# EAGLE library part ADN8810 (library analog-devices_III)
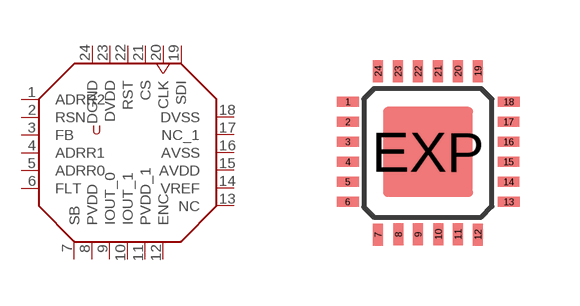
[diagram p29: symbol with the pads of LFCSP24; footprint LFCSP24]

Designator prefix -

## ADN8810  [LFCSP24]
1  ADRR2  in
2  RSN  in
3  FB  in
4  ADRR1  in
5  ADRR0  in
6  FLT  in
7  SB  in
8  PVDD  pwr
9  IOUT_0  out
10  IOUT_1  out
11  PVDD_1  pwr
12  ENC  in
13  NC  nc
14  VREF  in
15  AVDD  pwr
16  AVSS  sup
17  NC_1  nc
18  DVSS  sup
19  SDI  in
20  CLK  in
21  CS  in
22  RST  in
23  DVDD  pwr
24  DGND  sup

## Footprint LFCSP24 (pad centres in mm)
24-Lead Lead Frame Chip Scale Package 4 mm × 4 mm (CP-24) Source: www.analog.com .. 3832984220209AD8133_0.pdf
smd 0.55 x 0.25: 1 -2.01,1.25; 2 -2.005,0.75; 3 -2.005,0.25; 4 -2.005,-0.25; 5 -2.005,-0.75; 6 -2.01,-1.25; 13 2.02,-1.25; 14 2.015,-0.75; 15 2.015,-0.25; 16 2.015,0.25; 17 2.015,0.75; 18 2.02,1.25
smd 0.25 x 0.55: 7 -1.25,-2.07; 8 -0.74,-2.065; 9 -0.25,-2.065; 10 0.26,-2.065; 11 0.75,-2.065; 12 1.25,-2.07; 19 1.25,2.02; 20 0.75,2.015; 21 0.25,2.015; 22 -0.25,2.015; 23 -0.75,2.015; 24 -1.25,2.02
smd 2.25 x 2.25: EXP 0,0